# EAGLE library part 5584ЛН1АУ (library std-logic)
Шесть логических элементов. Производитель: ОАО "ИНТЕГРАЛ", г. Минск, р. Беларусь Технические условия: АЕЯР.431200.209 ТУ
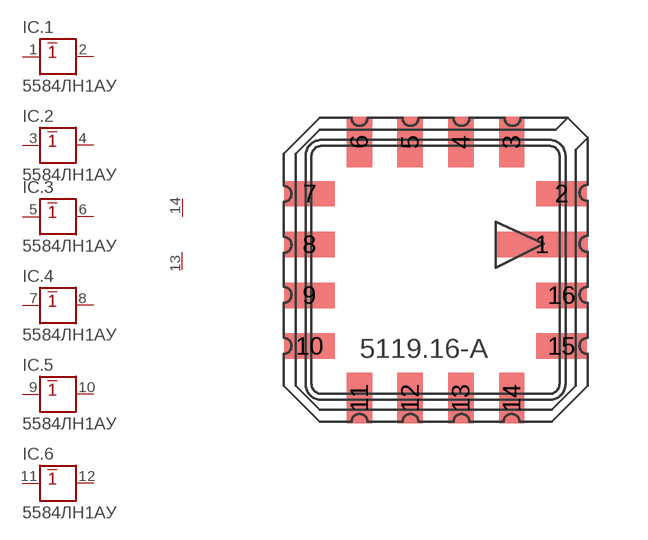
[diagram p3: symbol with the pads of 5119.16-А; footprint 5119.16-А]

Designator prefix IC; gates .1=5584ЛН1 .2=5584ЛН1 .3=5584ЛН1 .4=5584ЛН1 .5=5584ЛН1 .6=5584ЛН1 G$1=5584_PWR

## 5584ЛН1АУ  [5119.16-А]
1  .1:IN
2  .1:OUT
3  .2:IN
4  .2:OUT
5  .3:IN
6  .3:OUT
7  .4:IN
8  .4:OUT
9  .5:IN
10  .5:OUT
11  .6:IN
12  .6:OUT
13  G$1:GND  pwr
14  G$1:VCC  pwr

## Footprint 5119.16-А (pad centres in mm)
smd 2.3 x 0.635: 1 2.66,0.635
smd 1.27 x 0.635: 2 3.15,1.905; 7 -3.15,1.905; 8 -3.15,0.635; 9 -3.15,-0.635; 10 -3.15,-1.905; 15 3.15,-1.905; 16 3.15,-0.635
smd 0.635 x 1.27: 3 1.905,3.2; 4 0.635,3.2; 5 -0.635,3.2; 6 -1.905,3.2; 11 -1.905,-3.2; 12 -0.635,-3.2; 13 0.635,-3.2; 14 1.905,-3.2